# Altium schematic symbol library HEATSINK.SchLib: 5 symbols
Pins are listed as number, name and electrical type; pins without a type are passive.

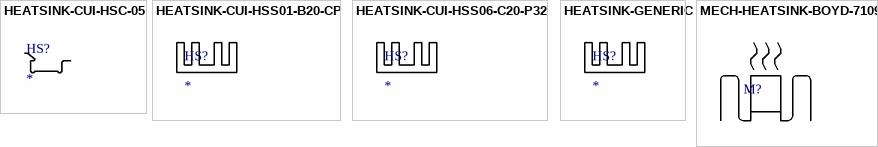
[diagram p0: symbols HEATSINK-CUI-HSC-05 to MECH-HEATSINK-BOYD-7109D]

## HEATSINK-CUI-HSC-05
designator HS?
HEATSINK,CLIP FOR HSS01-B20-CP; Manufacturer 1: CUI; DIGIKEY: HSS01-B20-CP; Manufacturer Part Number 1: HSS01-B20-CP
footprint HEATSINK-CUI-HSS06-C20-P32

## HEATSINK-CUI-HSS01-B20-CP
designator HS?
HEATSINKSTAMPED,CLIP-ON,BOARDMOUNT,3W,25C/W,CUI,HSS01-B20-CP; DIGIKEY: HSS01-B20-CP; Manufacturer 1: CUI; Manufacturer Part Number 1: HSS01-B20-CP
footprint HEATSINK-CUI-HSS01-B20-CP

## HEATSINK-CUI-HSS06-C20-P32
designator HS?
HEATSINKSTAMPED,CLIP-ON,BOARDMOUNT,3W,25C/W,CUI,HSS06-C20-P32; DIGIKEY: 2223-HSS06-C20-P32-ND; Manufacturer 1: CUI; Manufacturer Part Number 1: HSS06-C20-P32
footprint HEATSINK-CUI-HSS06-C20-P32

## HEATSINK-GENERIC
designator HS?
HEATSINK,HENERIC

## MECH-HEATSINK-BOYD-7109D
designator M?, comment STANDOFF  (value not drawn)
MECH,HEATSNIK,TO263,SMD; Manufacturer 1: BOYD / ASSMAN; Manufacturer Part Number 1: 7109D / V1102
footprint HEATSINK-BOYD-7109D (BOYD 7109 / ASSMAN V1102)